# EAGLE library part HARFLEX-105-012-601 (library customics)
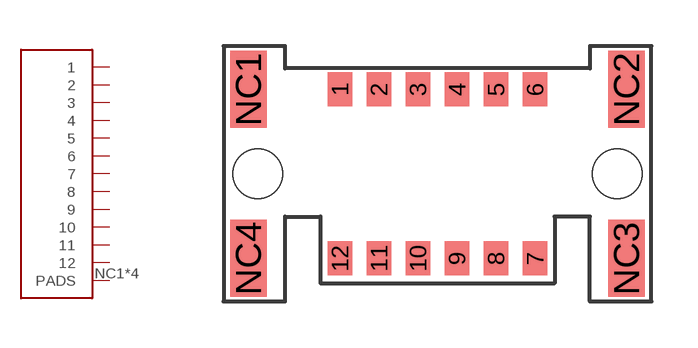
[diagram p6: symbol with the pads of HARFLEX-105-012-601; footprint HARFLEX-105-012-601]

Designator prefix P

## HARFLEX-105-012-601  [HARFLEX-105-012-601]
1  1
2  2
3  3
4  4
5  5
6  6
7  7
8  8
9  9
10  10
11  11
12  12
NC1  PADS
NC2  PADS
NC3  PADS
NC4  PADS

## Footprint HARFLEX-105-012-601 (pad centres in mm)
smd 0.8 x 1.1: 1 -3.175,2.75; 2 -1.905,2.75; 3 -0.635,2.75; 4 0.635,2.75; 5 1.905,2.75; 6 3.175,2.75; 7 3.175,-2.75; 8 1.905,-2.75; 9 0.635,-2.75; 10 -0.635,-2.75; 11 -1.905,-2.75; 12 -3.175,-2.75
smd 1.2 x 2.5: NC1 -6.15,2.75; NC2 6.15,2.75; NC3 6.15,-2.75; NC4 -6.15,-2.75
hole 1.6 at -5.85,0
hole 1.6 at 5.85,0